# EAGLE library part 50281-008 (library con-aces-50281-series)
ACES CONNECTORS 50281 SERIES ACES Connecors 50281
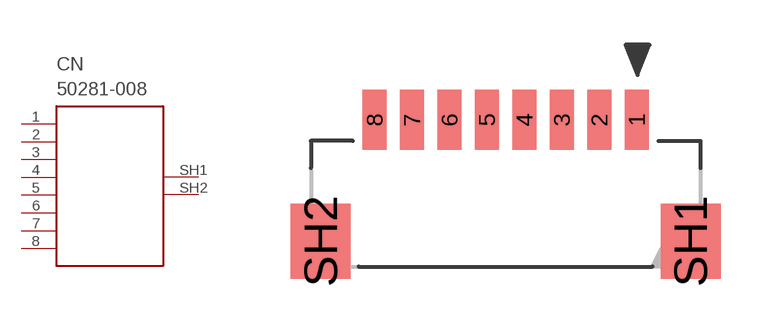
[diagram p4: symbol with the pads of 50281-008; footprint 50281-008]

Designator prefix CN

## 50281-008  [50281-008]
1  1
2  2
3  3
4  4
5  5
6  6
7  7
8  8
SH1  SH1
SH2  SH2

## Footprint 50281-008 (pad centres in mm)
smd 0.8 x 2: 1 4.375,1.9; 2 3.125,1.9; 3 1.875,1.9; 4 0.625,1.9; 5 -0.625,1.9; 6 -1.875,1.9; 7 -3.125,1.9; 8 -4.375,1.9
smd 2 x 2.5: SH1 6.175,-2.15; SH2 -6.175,-2.15